# Altium footprint library PCB - LEADLESS - SON - TI VSON-13 RJN0013A.PcbLib: 1 footprints
Each footprint in its own frame and in the unit in brackets; x right, y up, seen from the top. Pads: shape width x height; smd on the part's side, far side on the other; paste and mask are expansions set on the pad; w line width, h text height; cw(c..) or ccw(c..) is an arc to the next point about the centre after c.
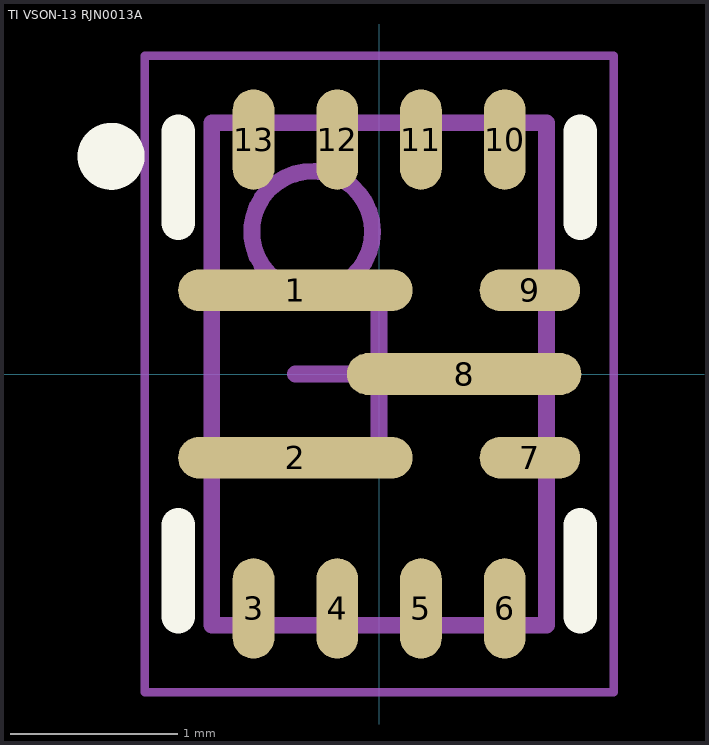
[diagram p0: the footprint, top view; thin cyan lines are the x and y axes]

## TI VSON-13 RJN0013A [mm] "VSFN, 13-Leads, Body 2.00x3.00mm, Pitch 0.50mm/1.00mm, IPC Medium Density"
height 1
pads (13):
  oval 1.4x0.25 smd: 1(-0.5,0.5) 2(-0.5,-0.5) 8(0.508,0)
  oval 0.25x0.6 smd: 3(-0.75,-1.4) 4(-0.25,-1.4) 5(0.25,-1.4) 6(0.75,-1.4) 10(0.75,1.4) 11(0.25,1.4) 12(-0.25,1.4) 13(-0.75,1.4)
  oval 0.6x0.25 smd: 7(0.9,-0.5) 9(0.9,0.5)
Top Overlay:
  circle w0.2: c-1.6,1.3 r0.1
  lines w0.2: -1.2,-1.45 -1.2,-0.9 ; -1.2,0.9 -1.2,1.45 ; 1.2,-1.45 1.2,-0.9 ; 1.2,0.9 1.2,1.45
Mechanical 13:
  circle w0.1: c-0.4,0.85 r0.361
  lines w0.1: -1,-1.5 -1,1.5 1,1.5 1,-1.5 -1,-1.5
Mechanical 15:
  lines w0.05: -1.4,-1.9 -1.4,1.9 1.4,1.9 1.4,-1.9 -1.4,-1.9
  lines w0.1: -0.5,0 0.5,0 ; 0,-0.5 0,0.5
3D body "TI - VSON-13 - RJN0013A v1.step": height 1, standoff 0, extent -1,-1.5 1,1.5